# EAGLE library part ATTINY441/841 (library bt_avr)
ATtiny441, ATtiny841 AVR Microcontroller The high-performance Atmel picoPower 8-bit AVR RISC-based microcontroller combines 4KB ISP flash memory, 512-Byte EEPROM, 128B SRAM, 12 general purpose I/O lines, 32 general purpose working registers, an 8-bit timer/counter with two PWM channels, two 16-bit timer/counters with two PWM channels, internal and external interrupts, an 12-channel 10-bit A/D converter, 2 On-chip analog comparators, 2 full duplex USARTs with Start Frame wake up from power down, master/slave SPI serial interface, slave I2C serial interface, programmable gain stage (1x, 20x, and 100x) for 12 differential ADC channel pairs, programmable watchdog timer with internal oscillator, internal calibrated oscillator, and four software selectable power saving modes. The device operates between 1.7-5.5 volts. datasheet.pdf <http://www.atmel.com/Images/Atmel-8495-8-bit-AVR-Microcontrollers-ATtiny441-ATtiny841_Datasheet.pdf>
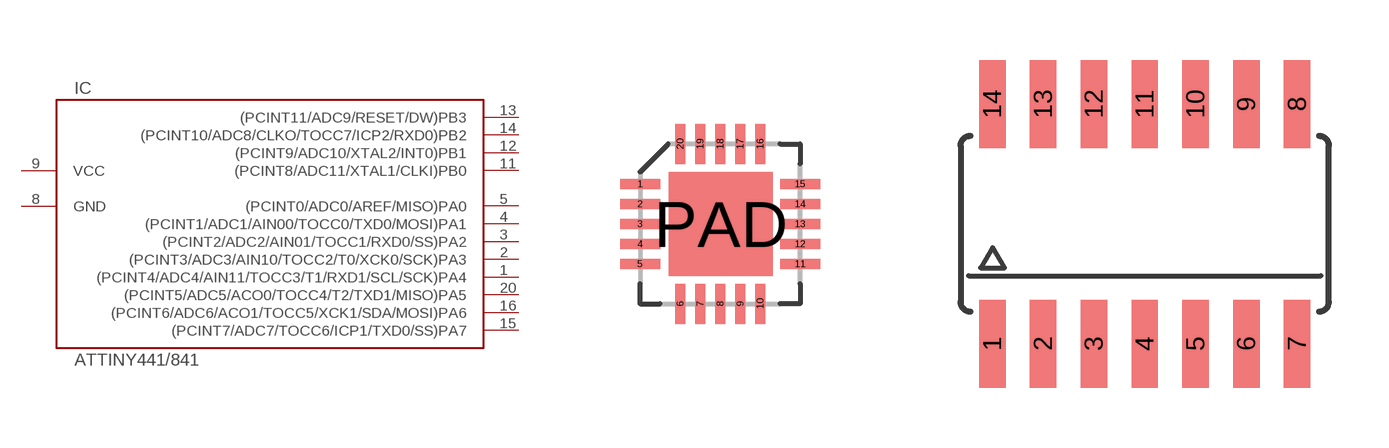
[diagram p6: symbol with the pads of 20MLF_0.5; footprints 20MLF_0.5, SOIC14N]

Designator prefix IC

## ATTINY441/841-MU  [20MLF_0.5]
1  (PCINT4/ADC4/AIN11/TOCC3/T1/RXD1/SCL/SCK)PA4
2  (PCINT3/ADC3/AIN10/TOCC2/T0/XCK0/SCK)PA3
3  (PCINT2/ADC2/AIN01/TOCC1/RXD0/SS)PA2
4  (PCINT1/ADC1/AIN00/TOCC0/TXD0/MOSI)PA1
5  (PCINT0/ADC0/AREF/MISO)PA0
8  GND
9  VCC
11  (PCINT8/ADC11/XTAL1/CLKI)PB0
12  (PCINT9/ADC10/XTAL2/INT0)PB1
13  (PCINT11/ADC9/RESET/DW)PB3
14  (PCINT10/ADC8/CLKO/TOCC7/ICP2/RXD0)PB2
15  (PCINT7/ADC7/TOCC6/ICP1/TXD0/SS)PA7
16  (PCINT6/ADC6/ACO1/TOCC5/XCK1/SDA/MOSI)PA6
20  (PCINT5/ADC5/ACO0/TOCC4/T2/TXD1/MISO)PA5

## ATTINY441/841-SSU  [SOIC14N]
1  VCC
2  (PCINT8/ADC11/XTAL1/CLKI)PB0
3  (PCINT9/ADC10/XTAL2/INT0)PB1
4  (PCINT11/ADC9/RESET/DW)PB3
5  (PCINT10/ADC8/CLKO/TOCC7/ICP2/RXD0)PB2
6  (PCINT7/ADC7/TOCC6/ICP1/TXD0/SS)PA7
7  (PCINT6/ADC6/ACO1/TOCC5/XCK1/SDA/MOSI)PA6
8  (PCINT5/ADC5/ACO0/TOCC4/T2/TXD1/MISO)PA5
9  (PCINT4/ADC4/AIN11/TOCC3/T1/RXD1/SCL/SCK)PA4
10  (PCINT3/ADC3/AIN10/TOCC2/T0/XCK0/SCK)PA3
11  (PCINT2/ADC2/AIN01/TOCC1/RXD0/SS)PA2
12  (PCINT1/ADC1/AIN00/TOCC0/TXD0/MOSI)PA1
13  (PCINT0/ADC0/AREF/MISO)PA0
14  GND

## Footprint 20MLF_0.5 (pad centres in mm)
smd 1 x 0.25: 1 0,3; 2 0,2.5; 3 0,2; 4 0,1.5; 5 0,1; 11 4,1; 12 4,1.5; 13 4,2; 14 4,2.5; 15 4,3
smd 0.25 x 1: 6 1,0; 7 1.5,0; 8 2,0; 9 2.5,0; 10 3,0; 16 3,4; 17 2.5,4; 18 2,4; 19 1.5,4; 20 1,4
smd 2.6 x 2.6: PAD 2.02,1.99

## Footprint SOIC14N (pad centres in mm)
smd 0.66 x 2.2: 1 -3.81,-3; 2 -2.54,-3; 3 -1.27,-3; 4 0,-3; 5 1.27,-3; 6 2.54,-3; 7 3.81,-3; 8 3.81,3; 9 2.54,3; 10 1.27,3; 11 0,3; 12 -1.27,3; 13 -2.54,3; 14 -3.81,3